# Altium footprint library footprints.PcbLib: 23 footprints (part 2 of 2)
Each footprint in its own frame and in the unit in brackets; x right, y up, seen from the top. Pads: shape width x height; smd on the part's side, far side on the other; paste and mask are expansions set on the pad; w line width, h text height; cw(c..) or ccw(c..) is an arc to the next point about the centre after c.
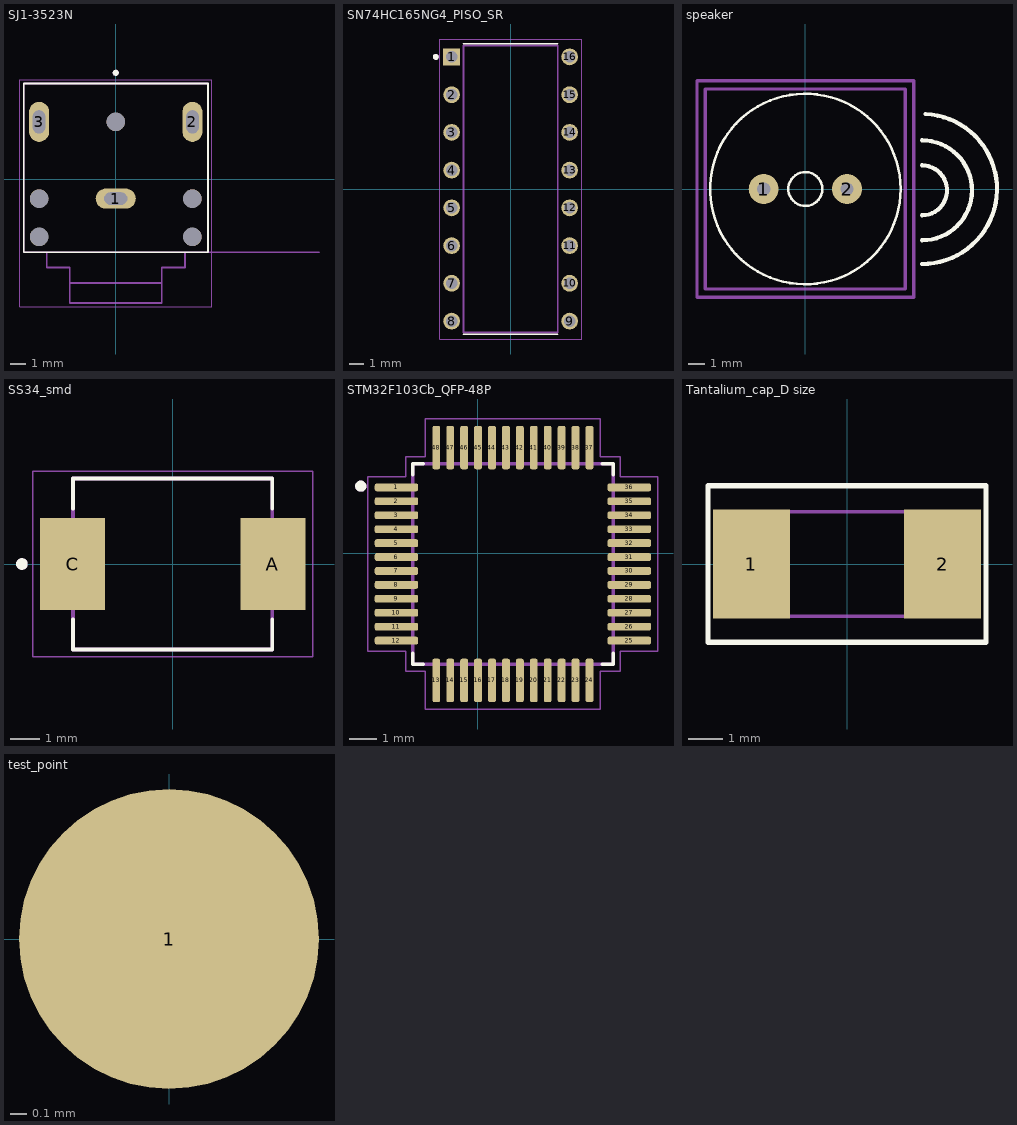
[diagram p1: the footprints below, top view; thin cyan lines are the x and y axes]

## SJ1-3523N [mm]
pads (8):
  oval 2.616x1.308 hole 0.8 slot 1.5 at 0 deg: 1(0,-1.25)
  oval 1.308x2.616 hole 0.8 slot 1.5 at 90 deg: 2(5,3.75) 3(-5,3.75)
  round 1.2 hole 1.2 unplated: ""(-5,-3.75) ""(-5,-1.25) ""(0,3.75) ""(5,-3.75) ""(5,-1.25)
Top Overlay:
  circle w0.2: c0,6.95 r0.1
  lines w0.127: -6,-4.75 6,-4.75 6,6.25 -6,6.25 -6,-4.75
Mechanical 13:
  circle w0.2: c0,6.95 r0.1
  lines w0.127: 13.25,-4.75 6,-4.75 ; -4.5,-4.75 -4.5,-5.75 -3,-5.75 -3,-6.75 ; -4.5,-4.75 4.5,-4.75 ; -4.5,-4.75 -6,-4.75 -6,6.25 6,6.25 6,-4.75 ; -3,-6.75 3,-6.75 ; -3,-6.75 -3,-8.05 3,-8.05 3,-6.75 ; 3,-6.75 3,-5.75 4.5,-5.75 4.5,-4.75 ; 4.5,-4.75 6,-4.75
  text "PCB EDGE" at 7,-4.5 h0.81
Mechanical 15:
  lines w0.05: -6.25,-8.3 -6.25,6.5 6.25,6.5 6.25,-8.3 -6.25,-8.3
3D body "SJ1-3523N--3DModel-STEP-1.STEP": height 5.55, standoff -2.96, extent -6,-8.057 6,6.243

## SN74HC165NG4_PISO_SR [mm]
pads (16):
  rect 1.13x1.13 / inner round 1.13 / far side rect 1.13x1.13 hole 0.78: 1(-3.97,8.89)
  round 1.13 hole 0.78: 2(-3.97,6.35) 3(-3.97,3.81) 4(-3.97,1.27) 5(-3.97,-1.27) 6(-3.97,-3.81) 7(-3.97,-6.35) 8(-3.97,-8.89) 9(3.97,-8.89) 10(3.97,-6.35) 11(3.97,-3.81) 12(3.97,-1.27) 13(3.97,1.27) 14(3.97,3.81) 15(3.97,6.35) 16(3.97,8.89)
Top Overlay:
  circle w0.2: c-5.035,8.89 r0.1
  lines w0.127: -3.175,-9.775 3.175,-9.775 ; -3.175,9.775 3.175,9.775
Mechanical 13:
  circle w0.2: c-5.035,8.89 r0.1
  lines w0.127: -3.175,-9.653 3.175,-9.653 3.175,9.653 -3.175,9.653 -3.175,-9.653
Mechanical 15:
  lines w0.05: -4.785,-10.095 4.785,-10.095 4.785,10.095 -4.785,10.095 -4.785,-10.095
3D body "step_temp.STEP": height 5.08, standoff -3.3, extent -3.95,-10.67 3.95,10.67

## speaker [mm]
pads (2):
  round 1.8 hole 0.8: 1(-2.5,0) 2(2.5,0)
Top Overlay:
  circle w0.152: c0,0 r1.016
  circle w0.152: c0,0 r5.715
  lines w0.254: 7,-4.5 ccw(c7,0) 7.214,4.495 ; 7,-3.081 ccw(c7,-0.081) 7,2.919 ; 7,-1.581 ccw(c7,-0.081) 7,1.419
Mechanical 1:
  lines w0.2: -6.5,-6.5 6.5,-6.5 6.5,-6 6.5,6.5 -6.5,6.5 -6.5,-6.5 ; -6,-6 -6,6 6,6 6,-6 -6,-6

## SS34_smd [mm]
pads (2):
  rect 2.25x3.18 smd: A(3.455,0) C(-3.455,0)
Top Overlay:
  circle w0.2: c-5.2,0 r0.1
  lines w0.127: -3.437,-1.91 -3.437,-2.95 3.437,-2.95 3.437,-1.91 ; -3.437,1.91 -3.437,2.95 3.437,2.95 3.437,1.91
Mechanical 13:
  circle w0.2: c-5.2,0 r0.1
  lines w0.127: -3.437,-2.95 3.437,-2.95 3.437,2.95 -3.437,2.95 -3.437,-2.95
Mechanical 15:
  lines w0.05: -4.83,-3.2 -4.83,3.2 4.83,3.2 4.83,-3.2 -4.83,-3.2
3D body "step_temp.STEP": height 2.65, standoff 0, extent -3.975,-2.95 3.975,2.95

## STM32F103Cb_QFP-48P [mm]
pads (48):
  rrect50% 1.56x0.28 smd: 1(-2.91,2.369) 2(-2.91,1.869) 3(-2.91,1.369) 4(-2.91,0.869) 5(-2.91,0.369) 6(-2.91,-0.131) 7(-2.91,-0.631) 8(-2.91,-1.131) 9(-2.91,-1.631) 10(-2.91,-2.131) 11(-2.91,-2.631) 12(-2.91,-3.131) 25(5.45,-3.131) 26(5.45,-2.631) 27(5.45,-2.131) 28(5.45,-1.631) 29(5.45,-1.131) 30(5.45,-0.631) 31(5.45,-0.131) 32(5.45,0.369) 33(5.45,0.869) 34(5.45,1.369) 35(5.45,1.869) 36(5.45,2.369)
  rrect50% 0.28x1.56 smd: 13(-1.48,-4.561) 14(-0.98,-4.561) 15(-0.48,-4.561) 16(0.02,-4.561) 17(0.52,-4.561) 18(1.02,-4.561) 19(1.52,-4.561) 20(2.02,-4.561) 21(2.52,-4.561) 22(3.02,-4.561) 23(3.52,-4.561) 24(4.02,-4.561) 37(4.02,3.799) 38(3.52,3.799) 39(3.02,3.799) 40(2.52,3.799) 41(2.02,3.799) 42(1.52,3.799) 43(1.02,3.799) 44(0.52,3.799) 45(0.02,3.799) 46(-0.48,3.799) 47(-0.98,3.799) 48(-1.48,3.799)
Top Overlay:
  circle w0.2: c-4.191,2.413 r0.1
  lines w0.127: -2.33,-3.591 -2.33,-3.981 -1.94,-3.981 ; -2.33,2.829 -2.33,3.219 -1.94,3.219 ; 4.48,-3.981 4.87,-3.981 4.87,-3.591 ; 4.48,3.219 4.87,3.219 4.87,2.829
Mechanical 13:
  circle w0.2: c-4.191,2.413 r0.1
  lines w0.127: -2.33,-3.981 -2.33,3.219 4.87,3.219 4.87,-3.981 -2.33,-3.981
Mechanical 15:
  lines w0.05: -3.94,-3.521 -2.58,-3.521 -2.58,-4.231 -1.87,-4.231 -1.87,-5.591 4.41,-5.591 4.41,-4.231 5.12,-4.231 5.12,-3.521 6.48,-3.521 6.48,2.759 5.12,2.759 5.12,3.469 4.41,3.469 4.41,4.829 -1.87,4.829 -1.87,3.469 -2.58,3.469 -2.58,2.759 -3.94,2.759 -3.94,-3.521
3D body "step_temp.STEP": height 1.6, standoff 0, extent -3.23,-4.881 5.77,4.119

## Tantalium_cap_D size [mm]
pads (2):
  rect 2.25x3.18 smd: 1(-2.794,0) 2(2.794,0)
Top Overlay:
  lines w0.15: -4.064,-2.286 -4.064,2.286 4.064,2.286 4.064,-2.286 -4.064,-2.286
Mechanical 13:
  lines w0.1: -3.048,-1.524 -3.048,1.524 3.048,1.524 3.048,-1.524 -3.048,-1.524
3D body "TAJD477M006RNJ.STEP": height 4.1, standoff 1, extent -3.65,-2.15 3.65,2.15

## test_point [mm]
pads (1):
  round 1.8 smd: 1(0,0)